# Altium schematic symbol library pyptec-Schlib_jp.SchLib: 316 symbols (part 1 of 7)
Pins are listed as number, name and electrical type; pins without a type are passive.

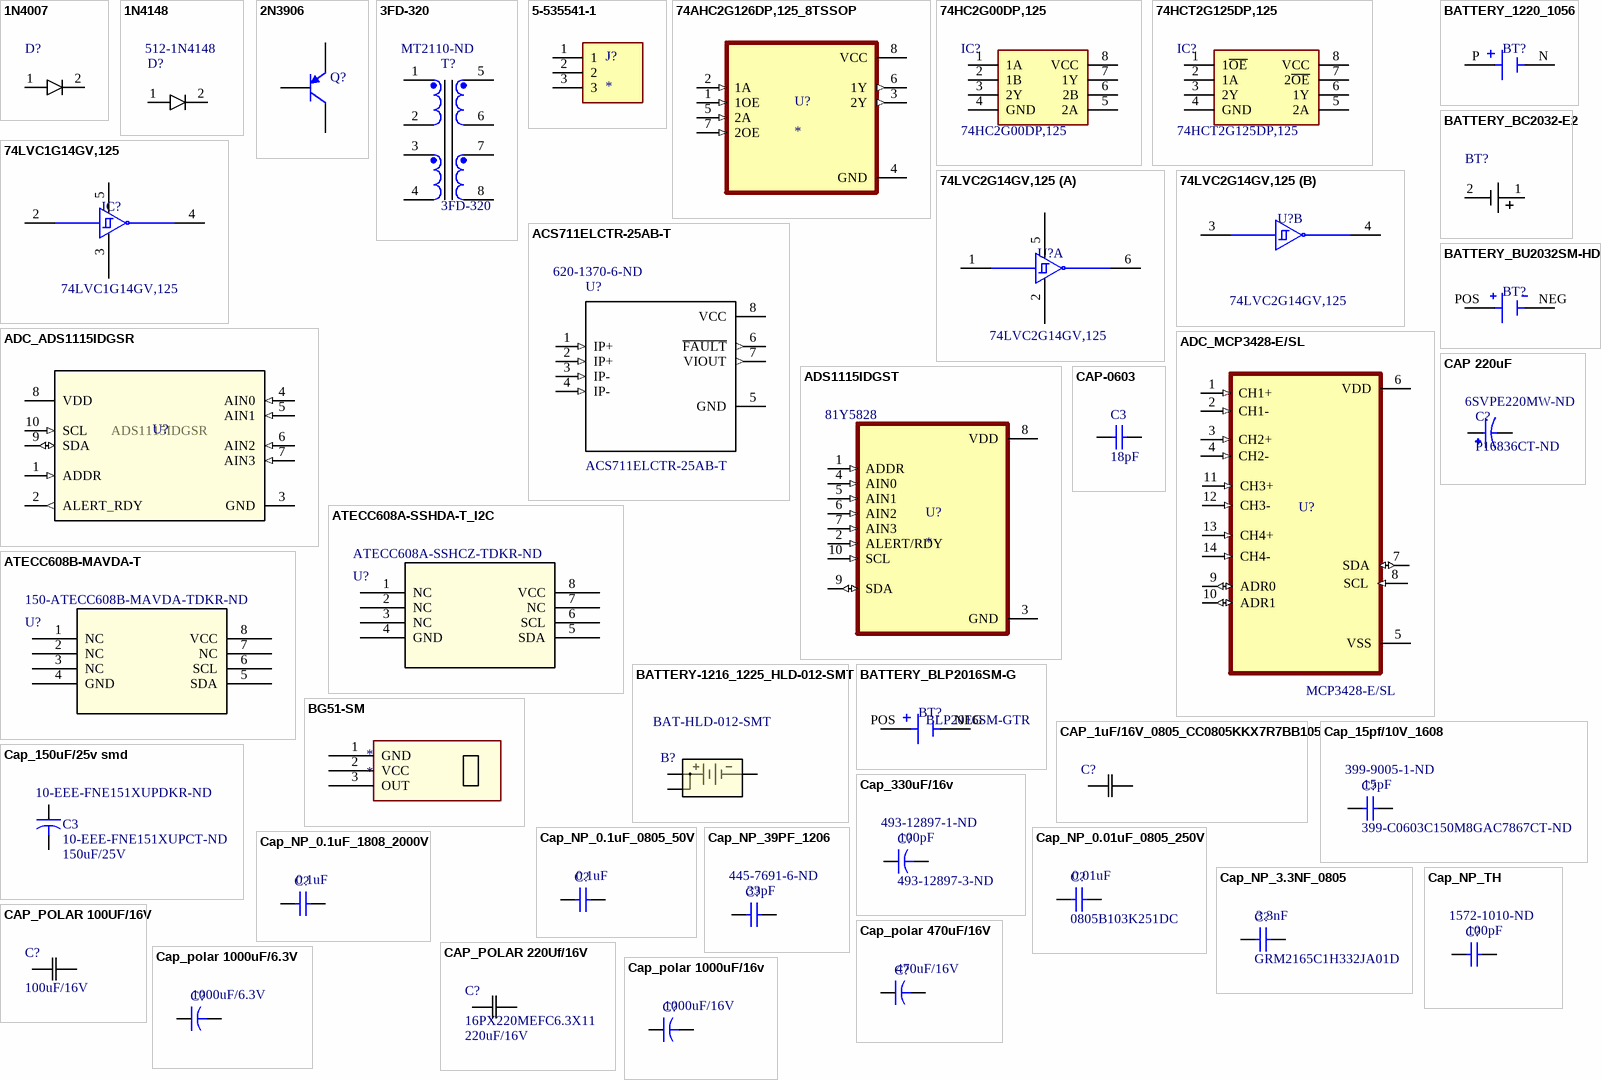
[diagram p0: symbols 1N4007 to Cap_polar 1000uF/16v]

## 1N4007
designator D?  (value not drawn)
Diode Switching 1KV 1A 2-Pin DO-41; Manufacturer: ON Semiconductor / Fairchild; MF: ON Semiconductor; Forward Voltage: 1.1V; Polarity: Standard; Peak Non-Repetitive Surge Current: 30A; Element Configuration: Single; Capacitance: 15pF; Peak Reverse Current: 5uA; Power Dissipation: 3W; Price: None; Package: DO-41 Good-Ark; Availability: Unavailable; MP: 1N4007; SnapEDA_Link: https://www.snapeda.com/parts/1N4007/ON%20Semiconductor/view-part/?ref=snap; Value: *; Supplier 1: Digi-Key; Manufacturer Part Number: 1N4007; Stock 1: 0; Pricing 1: 1=0.18, 10=0.168, 100=0.0912, 500=0.05614, 1000=0.03827 (USD); Mount: Through Hole; Number of Pins: 2; Weight: 0.245g; Contact Plating: Tin,Matte; Min Operating Temperature: -65°C; Max Operating Temperature: 175°C; Packaging: Tape and Reel; Voltage Rating (DC): 1kV; Current Rating: 1A; Output Current: 1A; Max Surge Current: 30A; Forward Current: 1A; Max Repetitive Reverse Voltage (Vrrm): 1kV; Max Forward Surge Current (Ifsm): 30A; Package Quantity: 1000; Reverse Voltage: 1kV; Average Rectified Current: 1A; Max Reverse Voltage (DC): 1kV; Diameter: 2.72mm; Length: 5.2mm; Height: 5.2mm; Width: 2.72mm; Radiation Hardening: No; REACH SVHC: No SVHC; Lead Free: Lead Free; ComponentLink1URL: http://www.farnell.com/datasheets/2288250.pdf?src-supplier=Newark; ComponentLink1Description: http://www.farnell.com/datasheets/2288250.pdf?src-supplier=Newark; ComponentLink2URL: http://www.onsemi.com/pub/Collateral/1N4001-D.PDF?src-supplier=Digi-Key; ComponentLink2Description: http://www.onsemi.com/pub/Collateral/1N4001-D.PDF?src-supplier=Digi-Key; ComponentLink3URL: http://www.fairchildsemi.com/datasheets/1N/1N4001.pdf?src-supplier=Digi-Key; ComponentLink3Description: http://www.fairchildsemi.com/datasheets/1N/1N4001.pdf?src-supplier=Digi-Key; Supplier Part Number 1: 1N4007FSCT-ND
footprint DIODE1N4007(Primary)
pins: 1, 2

## 1N4148
designator D?  Supplier Part Number 2: 512-1N4148  (hidden comment: 1N4148)
Diode Switching 1KV 1A 2-Pin DO-41; Manufacturer: ON Semiconductor / Fairchild; MF: ON Semiconductor; MP: 1N4007; Forward Voltage: 1.1V; Polarity: Standard; Peak Non-Repetitive Surge Current: 30A; Element Configuration: Single; Capacitance: 15pF; Peak Reverse Current: 5uA; Power Dissipation: 3W; Price: None; Package: DO-41 Good-Ark; Availability: Unavailable; SnapEDA_Link: https://www.snapeda.com/parts/1N4007/ON%20Semiconductor/view-part/?ref=snap; Value: *; Supplier 1: Digi-Key; Manufacturer Part Number: 1N4007; Stock 1: 0; Pricing 1: 1=0.18, 10=0.168, 100=0.0912, 500=0.05614, 1000=0.03827 (USD); Mount: Through Hole; Number of Pins: 2; Weight: 0.245g; Contact Plating: Tin,Matte; Min Operating Temperature: -65°C; Max Operating Temperature: 175°C; Packaging: Tape and Reel; Voltage Rating (DC): 1kV; Current Rating: 1A; Output Current: 1A; Max Surge Current: 30A; Forward Current: 1A; Max Repetitive Reverse Voltage (Vrrm): 1kV; Max Forward Surge Current (Ifsm): 30A; Package Quantity: 1000; Reverse Voltage: 1kV; Average Rectified Current: 1A; Max Reverse Voltage (DC): 1kV; Diameter: 2.72mm; Length: 5.2mm; Height: 5.2mm; Width: 2.72mm; Radiation Hardening: No; REACH SVHC: No SVHC; Lead Free: Lead Free; ComponentLink1URL: http://www.farnell.com/datasheets/2288250.pdf?src-supplier=Newark; ComponentLink1Description: http://www.farnell.com/datasheets/2288250.pdf?src-supplier=Newark; ComponentLink2URL: http://www.onsemi.com/pub/Collateral/1N4001-D.PDF?src-supplier=Digi-Key; ComponentLink2Description: http://www.onsemi.com/pub/Collateral/1N4001-D.PDF?src-supplier=Digi-Key; ComponentLink3URL: http://www.fairchildsemi.com/datasheets/1N/1N4001.pdf?src-supplier=Digi-Key; ComponentLink3Description: http://www.fairchildsemi.com/datasheets/1N/1N4001.pdf?src-supplier=Digi-Key; Supplier Part Number 1: 1N4007FSCT-ND; Supplier 2: Mouser
footprint 1N4148
pins: 1, 2

## 2N3906
designator Q?
PNP General Purpose Amplifier; Published: 8-Jun-2000; LatestRevisionDate: 15-Jan-2003; LatestRevisionNote: PCB Footprint 'BCY-W3/D4.7' replaced; DatasheetVersion: 1997; PackageVersion: Sep-1998; PackageReference: TO-92A; Publisher: Altium Limited; PackageDescription: TO, Flat Index; 3 In-Line, Axial Leads; Body Dia. 4.5mm; Leads 0.51 x 0.48 mm (max); ComponentLink1Description: Manufacturer Link; ComponentLink1URL: http://www.fairchildsemi.com/; ComponentLink2Description: Datasheet; ComponentLink2URL: http://www.fairchildsemi.com/ds/2N%2F2N3906.pdf
footprint TO-92A (TO, Flat Index; 3 In-Line, Axial Leads; Body Dia. 4.5mm; Leads 0.51 x 0.48 mm (max))
simulation model 2N3906 (PNP)
signal-integrity model 2N3906
pins: 1 E, 2 B, 3 C

## 3FD-320
designator T?  Supplier Part Number 1: MT2110-ND
Transformadores 12.6VCT @ .2A 6.3V  @ .4A Dual Primary; MP: 3FD-312; MF: Tamura; Package: SOIC-16 Tamura; Price: None; Availability: Unavailable; SnapEDA_Link: https://www.snapeda.com/parts/3FD-312/Tamura/view-part/?ref=snap; Value: *; Supplier 1: Digi-Key
footprint XFMR_3FD-320 (TAMURA)
pins: 1, 2, 3, 4, 5, 6, 7, 8

## 5-535541-1
designator J?  (value not drawn)
Conn Socket Strip RCP 3 POS 2.54mm Solder ST Thru-Hole Gang of Tubes; Product_Type: Connector; MF: TE Connectivity; Number_of_Positions: 3; Centerline_Pitch: 2.54 mm[.1 in]; Package: None; Value: *; TE_purchase_URL: https://www.te.com/usa-en/product-5-535541-1.html?te_bu=Cor&te_type=disp&te_campaign=seda_glo_cor-seda-global-disp-prtnr-fy19-seda-model-bom-cta_sma-317_1&elqCampaignId=32493; Price: None; MP: 5-535541-1; SnapEDA_Link: https://www.snapeda.com/parts/5-535541-1/TE%20Connectivity%20AMP%20Connectors/view-part/443642/?ref=snap; Availability: Unavailable; EU_RoHS_Compliance: Compliant; Comment_1: *
footprint TE_5-535541-1
pins: 1, 2, 3

## 74AHC2G126DP,125_8TSSOP
designator U?
Dual Bus Buffer Gate With 3-State Outputs 8-TSSOP -40 to 125; MP: 74AHC2G126DP,125; Value: 74AHC2G126DP,125; MF: Nexperia USA Inc.; Check_prices: https://www.snapeda.com/parts/SN74LVC2G126DCUR/Texas%20Instruments/view-part/401295/?ref=eda; Price: None; SnapEDA_Link: https://www.snapeda.com/parts/SN74LVC2G126DCUR/Texas%20Instruments/view-part/401295/?ref=snap; Availability: Good; Purchase-URL: https://pricing.snapeda.com/search/part/SN74LVC2G126DCUR/?ref=eda; Package: TSSOP-8 Texas Instruments; Link: https://www.digikey.com/en/products/detail/nexperia-usa-inc/74AHC2G126DP-125/1229530; Digi-Key_Part_Number: 1727-8369-1-ND; ComponentLink1Description: 74AHC2G126DP,125; ComponentLink1URL: https://www.digikey.com/en/products/detail/nexperia-usa-inc/74AHC2G126DP-125/1229530
footprint SOP65P490X110-8N
pins: 1 1OE (in), 2 1A (in), 3 2Y (out), 4 GND (power), 5 2A (in), 6 1Y (out), 7 2OE (in), 8 VCC (power)

## 74HC2G00DP,125
designator IC?
Compuerta NAND IC 2 Canal 8-TSSOP; Manufacturer_Name: Nexperia; Digi_Key_Part_Number: 1727-8396-1-ND; Datasheet Link: https://assets.nexperia.com/documents/data-sheet/74HC_HCT2G00.pdf; Height: 1.1mm; Manufacturer_Part_Number: 74HC2G00DP,125; Mouser Part Number: 771-HC2G00DP125; Mouser Price/Stock: https://www.mouser.co.uk/ProductDetail/Nexperia/74HC2G00DP125?qs=P62ublwmbi8NSsi4JfbcaA%3D%3D; Arrow Part Number: 74HC2G00DP,125; Arrow Price/Stock: https://www.arrow.com/en/products/74hc2g00dp125/nexperia?region=europe; ComponentLink1Description: 74HC2G00DP,125; ComponentLink1URL: https://www.digikey.com/es/products/detail/nexperia-usa-inc/74HC2G00DP-125/9747964; Link: https://www.digikey.com/es/products/detail/nexperia-usa-inc/74HC2G00DP-125/9747964; Value: 74HC2G00DP,125
footprint SOP65P400X110-8N
pins: 1 1A, 2 1B, 3 2Y, 4 GND, 5 2A, 6 2B, 7 1Y, 8 VCC

## 74HCT2G125DP,125
designator IC?
Búfer, no invertido 2 Elemento 1 Bit por elemento 3 estados Output 8-TSSOP; Manufacturer_Name: Nexperia; Digi_Key_Part_Number: 1727-3933-1-ND; Datasheet Link: https://assets.nexperia.com/documents/data-sheet/74HC_HCT2G125.pdf; Height: 1.1mm; Manufacturer_Part_Number: 74HCT2G125DP,125; Mouser Part Number: 771-74HCT2G125DP-G; Mouser Price/Stock: https://www.mouser.co.uk/ProductDetail/Nexperia/74HCT2G125DP125?qs=P62ublwmbi%252BFEEA75cEuYg%3D%3D; Arrow Part Number: 74HCT2G125DP,125; Arrow Price/Stock: https://www.arrow.com/en/products/74hct2g125dp125/nexperia?region=nac; ComponentLink1Description: 74HCT2G125DP,125; ComponentLink1URL: https://www.digikey.com/es/products/detail/nexperia-usa-inc/74HCT2G125DP-125/1709865; Link: https://www.digikey.com/es/products/detail/nexperia-usa-inc/74HCT2G125DP-125/1709865; Price: 0,47; Value: 74HCT2G125DP,125
footprint SOP65P400X110-8N
pins: 1 1~{OE}, 2 1A, 3 2Y, 4 GND, 5 2A, 6 1Y, 7 2~{OE}, 8 VCC

## 74LVC1G14GV,125
designator IC?
Inversor IC 1 Canal Gatillo Schmitt SC-74A; Digi_Key_Part_Number: 1727-4116-1-ND; Parameter 3: 0,08; ComponentLink1Description: 74LVC1G14GV,125; ComponentLink1URL: https://www.digikey.com/es/products/detail/nexperia-usa-inc/74LVC1G14GV-125/1231437; Link: https://www.digikey.com/es/products/detail/nexperia-usa-inc/74LVC1G14GV-125/1231437; Price: 0,13; LCSC Part: C131093; Mouser Part: 771-74LVC1G14GV; Value: 74LVC1G14GV,125
footprint SOT95P275X110-5N
pins: 2 A, 3 GND, 4 Y, 5 VCC

## 74LVC2G14GV,125
designator U?, comment value 74LVC2G14GV,125  (hidden comment: 1727-6088-1-ND)
Inversor IC 2 Canal Gatillo Schmitt 6-TSOP; ComponentLink1Description: IC INVERT SCHMITT 2CH 2-IN 6TSOP; ComponentLink1URL: https://www.digikey.com/es/products/detail/nexperia-usa-inc/74LVC2G14GV-125/1231582?s=N4IgTCBcDaIIwHYwILQDYAMAOLK4oDkAREAXQF8g; Digi_Key_Part_Number: 1727-6088-1-ND; Link: https://www.digikey.com/es/products/detail/nexperia-usa-inc/74LVC2G14GV-125/1231582?s=N4IgTCBcDaIIwHYwILQDYAMAOLK4oDkAREAXQF8g; Price: 0,19; LCSC Part: C426708; Mouser Part: C426708; Price JLCPCB: 0,13
footprint SOT95P275X110-6N
footprint Model Name (Footprint not found)
part A pins: 1 A, 2 (power), 5 (power), 6 Y
part B pins: 3 A, 4 Y

## ACS711ELCTR-25AB-T
designator U?  Supplier Part Number 1: 620-1370-6-ND
Hall Effect Linear Current Sensor with Overcurrent Fault Output for <100 V Isolation Applications; Manufacturer: Allegro MicroSystems; Manufacturer Part Number: ACS711ELCTR-12AB-T; MF: Allegro MicroSystems LLC; Number of Channels: 1; Frequency: 100kHz; Response Time: 4.6us; Max Supply Current: 5.5mA; Polarity: Bidirectional; Linearity: 1%; Accuracy: 5%; Current Sensing: 12.5A; Sensitivity: 110mV/A; Operating Supply Voltage: 3.3V; SnapEDA_Link: https://www.snapeda.com/parts/ACS711ELCTR-25AB-T/Allegro%20MicroSystems%20LLC/view-part/?ref=snap; Package: SOIC-8 Allegro MicroSystems LLC; MP: ACS711ELCTR-25AB-T; Availability: Unavailable; Price: None; Value: *; Supplier 1: Digi-Key; Stock 1: 4237; Pricing 1: 1=2.89, 5=2.682, 10=2.228, 25=1.8564, 50=1.65, 100=1.5675, 500=1.32, 1000=1.2375 (USD); Case/Package: SOIC; Number of Pins: 8; Min Operating Temperature: -40°C; Max Operating Temperature: 85°C; Package Quantity: 1; -3db Bandwidth: 100kHz; Packaging: Tape and Reel; ComponentLink1URL: http://www.allegromicro.com/en/Products/Part_Numbers/0711/0711.pdf?src-supplier=Avnet; ComponentLink1Description: http://www.allegromicro.com/en/Products/Part_Numbers/0711/0711.pdf?src-supplier=Avnet; ComponentLink2URL: http://www.allegromicro.com/~/media/Files/Datasheets/ACS711-Datasheet.ashx?src-supplier=Avnet+Europe; ComponentLink2Description: http://www.allegromicro.com/~/media/Files/Datasheets/ACS711-Datasheet.ashx?src-supplier=Avnet+Europe
footprint SOIC127P600X175-8N
pins: 1 IP+ (in), 2 IP+ (in), 3 IP- (in), 4 IP- (in), 5 GND (power), 6 ~{FAULT} (out), 7 VIOUT (out), 8 VCC (power)

## ADC_ADS1115IDGSR
designator U?, comment ADS1115IDGSR
16 Bit Analog to Digital Converter 2, 4 Input 1 Sigma-Delta 10-VSSOP; Digi_Key_Part_Number: 296-38849-1-ND; Price: 4,39; ComponentLink1Description: ADS1115IDGSR; ComponentLink1URL: https://www.digikey.com/en/products/detail/texas-instruments/ADS1115IDGSR/2231567; Link: https://www.digikey.com/en/products/detail/texas-instruments/ADS1115IDGSR/2231567; LCSC Part: C37593; Mouser Part: 595-ADS1115IDGSR; Price JLCPCB: 0,94; Value: ADS1115IDGSR
footprint DGS0010A_M
pins: 1 ADDR (in), 2 ALERT_RDY (out), 3 GND (power), 4 AIN0 (in), 5 AIN1 (in), 6 AIN2 (in), 7 AIN3 (in), 8 VDD (power), 9 SDA (io), 10 SCL (in)

## ADC_MCP3428-E/SL
designator U?, comment value MCP3428-E/SL  (hidden comment: MCP3428-E/SL-ND)
16 Bit Analog to Digital Converter 4 Input 1 Sigma-Delta 14-SOIC; Price: 4,63; Link: https://www.digikey.com/es/products/detail/MCP3428-E-SL/MCP3428-E-SL-ND/2179226?utm_campaign=buynow&utm_medium=aggregator&curr=usd&utm_source=octopart; Digi_Key_Part_Number: MCP3428-E/SL-ND; ComponentLink1Description: IC ADC 16BIT SIGMA-DELTA 14SOIC; ComponentLink1URL: https://www.digikey.com/es/products/detail/microchip-technology/mcp3428-e-sl/2179226; LCSC Part: C560166; Mouser Part: 579-MCP3428E/SL; Price JLCPCB: 4,47
footprint SOIC127P600X175-14N
pins: 1 CH1+ (in), 2 CH1- (in), 3 CH2+ (in), 4 CH2- (in), 5 VSS (power), 6 VDD (power), 7 SDA (io), 8 SCL (in), 9 ADR0 (io), 10 ADR1 (io), 11 CH3+ (in), 12 CH3- (in), 13 CH4+ (in), 14 CH4- (in)

## ADS1115IDGST
designator U?  Supplier Part Number 1: 81Y5828
MP: ADS1115IDGST; Package: None; Availability: Unavailable; Value: *; Price: None; Supplier 1: Newark
footprint SOP50P490X110-10N
pins: 1 ADDR (in), 2 ALERT/RDY (in), 3 GND (power), 4 AIN0 (in), 5 AIN1 (in), 6 AIN2 (in), 7 AIN3 (in), 8 VDD (power), 9 SDA (io), 10 SCL (in)

## ATECC608A-SSHDA-T_I2C
designator U?, comment Supplier Part Number 1: ATECC608A-SSHCZ-TDKR-ND  (hidden comment: ATECC608A-SSHDA-T)
CHIP DE AUTENTICACIÓN IC 8SOIC; Mfr_Name: Microchip; Manufacturer_Part_Number: ATECC608A-SSHCZ-T; Digi_Key_Part_Number: 150-ATECC608B-SSHDA-TCT-ND; Copyright: Copyright (C) 2022 Ultra Librarian. All rights reserved.; RefDes: RefDes; Type: DEV; Supplier 1: Digi-Key; ComponentLink1Description: ATECC608A-SSHDA-T; ComponentLink1URL: https://ww1.microchip.com/downloads/en/DeviceDoc/ATECC608A-CryptoAuthentication-Device-Summary-Data-Sheet-DS40001977B.pdf; Link: https://www.digikey.com/es/products/detail/microchip-technology/ATECC608B-SSHDA-T/13415162?s=N4IgTCBcDaIIIBUCiBhFA2ADADgEIAIBlQgCQBFEQBdAXyA; ComponentLink2Description: IC AUTHENTICATION CHIP; ComponentLink2URL: https://www.digikey.com/es/products/detail/microchip-technology/ATECC608B-SSHDA-T/13415162?s=N4IgTCBcDaIIwFYAMBaAggFQKIGEcDYkAOAIRQGVyAJAETRQxwxQDkaQBdAXyA
footprint SOIC8_4P9X3P9MC_MCH
pins: 1 NC, 2 NC, 3 NC, 4 GND, 5 SDA, 6 SCL, 7 NC, 8 VCC (power)

## ATECC608B-MAVDA-T
designator U?, comment Supplier Part Number 1: 150-ATECC608B-MAVDA-TDKR-ND  (hidden comment: 150-ATECC608B-MAVDA-TCT-ND)
IC AUTHENTICATION CHIP; Mfr_Name: Microchip; Manufacturer_Part_Number: ATECC608A-SSHCZ-T; Copyright: Copyright (C) 2022 Ultra Librarian. All rights reserved.; Digi-Key_Part_Number_1: ATECC608A-SSHCZ-TCT-ND; Digi-Key_Part_Number_2: ATECC608A-SSHCZ-TDKR-ND; Digi-Key_Part_Number_3: ATECC608A-SSHCZ-TTR-ND; RefDes: RefDes; Type: DEV; Supplier 1: Digi-Key
footprint SON50P300X200X60-9N-EP160X140
pins: 1 NC, 2 NC, 3 NC, 4 GND, 5 SDA, 6 SCL, 7 NC, 8 VCC (power)

## BATTERY-1216_1225_HLD-012-SMT
designator B?, comment BAT-HLD-012-SMT
Battery Retainer Coin, 12.0mm 1 Cell SMD (SMT) Tab; Digi_Key_Part_Number: BAT-HLD-012-SMT-ND; Link: https://www.digikey.com/en/products/detail/te-connectivity-linx/BAT-HLD-012-SMT/3044013; Price: 0,34; ComponentLink1Description: BATTERY RETAINER COIN 12MM SMD; ComponentLink1URL: https://www.digikey.com/en/products/detail/te-connectivity-linx/BAT-HLD-012-SMT/3044013; Value: BAT-HLD-012-SMT
footprint BAT-HLD-012-SMT_TEC
pins: 1, 2, 3

## BATTERY_1220_1056
designator BT?, comment 1056  (value not drawn)
Batería Soporte (abierto) Moneda, 12.0mm 1 Celdas Lengüeta SMD (SMT); Digi_Key_Part_Number: 36-1056-ND; Value: CR1220; Link: https://www.digikey.com/es/products/detail/keystone-electronics/1056/2020198; Price: 1,10; LCSC Part: C70381; Mouser Part: 534-1056; Price JLCPCB: 0,23; ComponentLink1Description: BATTERY HOLDER COIN 12.5MM SMD; ComponentLink1URL: https://www.digikey.com/es/products/detail/keystone-electronics/1056/2020198
footprint BAT_1056
pins: N NEG, P POS

## BATTERY_BC2032-E2
designator BT?, comment BC2032-E2  (value not drawn)
BATTERY HOLDER COIN 20MM PC PIN; Digi_Key_Part_Number: BC2032-E2-ND; ComponentLink1Description: BATTERY HOLDER COIN 20MM PC PIN; ComponentLink1URL: https://www.digikey.com/en/products/detail/mpd-memory-protection-devices/BC2032-E2/2077836; Link: https://www.digikey.com/en/products/detail/mpd-memory-protection-devices/BC2032-E2/2077836; Price: 1,10; Mouser Part: *; Price JLCPCB: *
footprint BAT3
pins: 1, 2

## BATTERY_BLP2016SM-G
designator BT?, comment BLP2016SM-GTR
Battery Holder (Open) Coin, 20.0mm 1 Cell SMD (SMT) Tab; Digi_Key_Part_Number: BLP2016SM-GCT-ND; ComponentLink1Description: BATTERY HOLDER COIN 20MM SMD; ComponentLink1URL: https://www.digikey.com/en/products/detail/mpd-memory-protection-devices/BLP2016SM-GTR/5430469; Link: https://www.digikey.com/en/products/detail/mpd-memory-protection-devices/BLP2016SM-GTR/5430469; Price: 1,35; Mouser Part: *; LCSC Part: C964739; Price JLCPCB: 0,39; Value: BLP2016SM-GTR
footprint BAT_BLP2016SM-G
pins: NEG, POS

## BATTERY_BU2032SM-HD-G
designator BT?, comment BU2032SM-HD-G  (value not drawn)
Battery Holder (Open) Coin, 20.0mm 1 Cell SMD (SMT) Tab; Digi_Key_Part_Number: BU2032SM-HD-GCT-ND; Price: 1,47; ComponentLink1Description: BU2032SM-HD-G; ComponentLink1URL: https://www.digikey.com/en/products/detail/mpd-memory-protection-devices/BU2032SM-HD-G/755446; Link: https://www.digikey.com/en/products/detail/mpd-memory-protection-devices/BU2032SM-HD-G/755446
footprint BAT_BU2032SM-HD-G
pins: NEG, POS

## BG51-SM
designator *
The BG51 is capable of detecting beta radiation / (electrons), gamma radiation (photons) and X-rays.
footprint BG51SM (Nuclear Beta and Gamma Radiation Sensor)
pins: 1 GND, 2 VCC (power), 3 OUT

## CAP 220uF
designator C?, comment P16836CT-ND  Supplier Part Number 1: 6SVPE220MW-ND
220 µF 6.3 V Aluminio - capacitores de polímero Radial, encapsulado - terminales SMD 15mOhm 2000 h a 105°C; MP: 6SVPE220MW; Availability: Unavailable; Package: None; Value: *; Price: None; ComponentLink1Description: 6SVPE220MW; ComponentLink1URL: https://www.digikey.com/en/products/detail/panasonic-electronic-components/6SVPE220MW/4209271; Supplier 1: Digi-Key; Digi_Key_Part_Number: P16836CT-ND; Link: https://www.digikey.com/en/products/detail/panasonic-electronic-components/6SVPE220MW/4209271?s=N4IgTCBcDaIAoEYBsAOAzEgwgFQLQDkAREAXQF8g
footprint CAP_6SVPE220MW
pins: 1, 2

## CAP-0603
designator C3, comment 18pF
Ceramic CAP 0603(1608)
pins: 1, 2

## CAP_1uF/16V_0805_CC0805KKX7R7BB105
designator C?, comment CAP CER 1UF 16V X7R 0805  (value not drawn)
1 µF ±10% 16V Capacitores cerámicos X7R 0805 (2012 métrico); Digi_Key_Part_Number: 311-1365-1-ND; Value: 1uF/16V; ComponentLink1Description: CAP CER 1UF 16V X7R 0805; ComponentLink1URL: https://www.digikey.com/es/products/detail/yageo/CC0805KKX7R7BB105/2103103; Link: https://www.digikey.com/es/products/detail/yageo/CC0805KKX7R7BB105/2103103; Price: 0,13; LCSC Part: C94122; Mouser Part: 603-CC805KKX7R7BB105; Price JLCPCB: 0,0112
footprint CAP_NP_0805
pins: 1, 2

## Cap_15pf/10V_1608
designator C?, comment 399-C0603C150M8GAC7867CT-ND  value 15pF  Supplier Part Number 1: 399-9005-1-ND
15 pF ±20% 10V Capacitores cerámicos C0G, NP0 0603 (1608 métrico); Manufacturer: Kyocera AVX; Manufacturer Part Number: 08055C104MAT2A; Dielectric Material: Ceramic; Capacitance: 100nF; Voltage Rating: 50V; Dielectric: X7R; Dissipation Factor: 2.5%; Insulation Resistance: 100GR; Published: 8-Jun-2000; LatestRevisionDate: 17-Jul-2002; LatestRevisionNote: Re-released for DXP Platform.; PackageReference: RAD-0.3; Publisher: Altium Limited; PackageDescription: Radial Cap, Thru-Hole; 2 Leads; 0.3 in Pin Spacing; Mount: Surface Mount,PCB; Case/Package: 0805; Number of Pins: 2; Case Code (Metric): 2012; Case Code (Imperial): 0805; Contact Plating: Tin,Matte; Min Operating Temperature: -55°C; Max Operating Temperature: 125°C; Package Quantity: 1; Tolerance: 20%; Packaging: Tape and Reel; Voltage Rating (DC): 50V; Termination: SMD/SMT; Voltage: 50V; Length: 2.01mm; Height: 0.94mm; Width: 0.049inch; Thickness: 0.037inch; Depth: 1.25mm; Radiation Hardening: No; REACH SVHC: No SVHC; Lead Free: Lead Free; Supplier 1: Digi-Key; Stock 1: 59743; Pricing 1: 1=0.11, 10=0.078, 100=0.0347, 500=0.0248, 1000=0.01948 (USD); Lead Pitch: 0.7mm; ComponentLink1Description: CAP CER 15PF 10V C0G/NP0 0603; ComponentLink1URL: https://www.digikey.com/es/products/detail/kemet/C0603C150M8GAC7867/2199937?s=N4IgTCBcDaIMwE4EFoEAY0FZkEZkDsATEAXQF8g; Digi_Key_Part_Number: 399-C0603C150M8GAC7867CT-ND; Link: https://www.digikey.com/es/products/detail/kemet/C0603C150M8GAC7867/2199937?s=N4IgTCBcDaIMwE4EFoEAY0FZkEZkDsATEAXQF8g; Parameter 1: *; Price: 0,10
footprint CAP_NP_C2012X94N
pins: 1, 2

## Cap_150uF/25v smd
designator C3, comment 10-EEE-FNE151XUPCT-ND  value 150uF/25V  Supplier Part Number 1: 10-EEE-FNE151XUPDKR-ND
Capacitores electrolíticos de aluminio 150 µF 25 V Radial, encapsulado - terminales SMD 2000 h a 105°C; Manufacturer: Nichicon; Manufacturer Part Number: UVR1E102MPD1TD; Dielectric Material: Aluminium; Capacitance: 1mF; Tolerance: 20%; Voltage Rating (DC): 25V; Life (Hours): 2000Hour; Ripple Current: 960mA; Leakage Current: 750uA; Dissipation Factor: 0.16%; Lead Diameter: 0.6mm; Published: 23-Sep-2002; PackageReference: CAPR5-4X5; Publisher: Altium Limited; PackageDescription: Capacitor; 2 Leads; Mount: Through Hole,PCB; Case/Package: Radial; Number of Pins: 2; Min Operating Temperature: -40°C; Max Operating Temperature: 85°C; Packaging: Tape and Reel; Voltage Rating: 25V; Package Quantity: 500; Termination: Radial; Voltage: 25V; Diameter: 10mm; Length: 20mm; Height: 20mm; Lead Pitch: 5mm; Height - Seated (Max): 0.866inch; Radiation Hardening: No; REACH SVHC: No SVHC; Lead Free: Lead Free; ComponentLink1Description: EEE-FNE151XUP; ComponentLink1URL: https://www.digikey.com/es/products/detail/panasonic-electronic-components/EEE-FNE151XUP/11656894; Supplier 1: Digi-Key; Link: https://www.digikey.com/es/products/detail/panasonic-electronic-components/EEE-FNE151XUP/11656894; Digi_Key_Part_Number: 10-EEE-FNE151XUPCT-ND; Price: 0,71
footprint CAPAE1030X1030N - duplicate
pins: 1, 2

## Cap_330uF/16v
designator C?, comment 493-12897-3-ND  value 100pF  Supplier Part Number 1: 493-12897-1-ND
330 µF 16 V Aluminum Electrolytic Capacitors Radial, Can 1000 Hrs @ 105°C; Manufacturer: Nichicon; Manufacturer Part Number: UVR1E102MPD1TD; Dielectric Material: Aluminium; Capacitance: 1mF; Tolerance: 20%; Voltage Rating (DC): 25V; Life (Hours): 2000Hour; Ripple Current: 960mA; Leakage Current: 750uA; Dissipation Factor: 0.16%; Lead Diameter: 0.6mm; Published: 23-Sep-2002; PackageReference: CAPR5-4X5; Publisher: Altium Limited; PackageDescription: Capacitor; 2 Leads; Mount: Through Hole,PCB; Case/Package: Radial; Number of Pins: 2; Min Operating Temperature: -40°C; Max Operating Temperature: 85°C; Packaging: Tape and Reel; Voltage Rating: 25V; Package Quantity: 500; Termination: Radial; Voltage: 25V; Diameter: 10mm; Length: 20mm; Height: 20mm; Lead Pitch: 5mm; Height - Seated (Max): 0.866inch; Radiation Hardening: No; REACH SVHC: No SVHC; Lead Free: Lead Free; Supplier 1: Digi-Key; Stock 1: 8502; Pricing 1: 1=0.45, 10=0.312, 100=0.1869, 500=0.14018, 1000=0.11837 (USD); Digi_Key_Part_Number: 493-12897-3-ND; Link: https://www.digikey.com/en/products/detail/nichicon/UVY1C331MED1TD/4329096?s=N4IgTCBcDaICwE4DMBGMAOBB2AtCkAugL5A; ComponentLink6Description: cap 330uF /16V; ComponentLink6URL: https://www.digikey.com/en/products/detail/nichicon/UVY1C331MED1TD/4329096?s=N4IgTCBcDaICwE4DMBaAjGAHAg7OlAcgCIgC6AvkA; Price: 0,48
footprint C470U
pins: 1, 2

## Cap_NP_0.1uF_0805_50V
designator C?, comment value 0.1uF  (hidden comment: 478-3351-1-ND)
0.1 µF ±20% 50V Ceramic Capacitor X7R 0805 (2012 Metric); Link: https://www.digikey.com/en/products/detail/kyocera-avx/08055C104MAT2A/929983?s=N4IgTCBcDaICwHYAcBmFBWAjANhAXQF8g; Digi_Key_Part_Number: 478-3351-1-ND; ComponentLink1Description: CAP CER 0.1UF 50V X7R 0805; ComponentLink1URL: https://www.digikey.com/es/products/detail/kyocera-avx/KGM21NR71H104MT/929983?s=N4IgTCBcDaICwHYAcBaAzGgrARhbgcgCIgC6AvkA; Price: 0,16; LCSC Part: C49678; Mouser Part: 581-08055C104M; Price JLCPCB: 0,01
footprint CAP_NP_0805
pins: 1, 2

## Cap_NP_0.01uF_0805_250V
designator C?, comment 0805B103K251DC  value 0.01uF
0.01 µF ±10% 250V Ceramic Capacitor X7R 0805 (2012 Metric); Digi_Key_Part_Number: 3372-0805B103K251DCTR-ND; Link: https://www.digikey.com/en/products/detail/nextgen-components/0805B103K251DC/18668378; Price: 0,036; ComponentLink1Description: Cap.,SMD,0805,X7R,10nF,10%,250V; ComponentLink1URL: https://www.digikey.com/en/products/detail/nextgen-components/0805B103K251DC/18668378
footprint CAP_NP_0805
pins: 1, 2

## Cap_NP_0.1uF_1808_2000V
designator C?, comment value 0.1uF  (hidden comment: 399-16769-1-ND)
1000 pF ±20% 2000V (2kV) Ceramic Capacitor X7R 1808 (4520 Metric); ComponentLink1Description: 399-16769-1-ND; ComponentLink1URL: https://www.digikey.com/es/products/detail/kemet/C1808C102MGRACAUTO/8109950?s=N4IgjCBcpgbFoDGUBmBDANgZwKYBoQB7KAbXDABYKAmakAXQIAcAXKEAZRYCcBLAOwDmIAL4iCdSGTD8AYgHpqAawBqAAgDCObmgC2vZPRFA; Digi_Key_Part_Number: 399-16769-1-ND; Link: https://www.digikey.com/en/products/detail/kemet/C1808C102MGRACAUTO/8109950?s=N4IgTCBcDaIMwE4EEYBsB2VKQF0C%2BQA; Price: 1,15; LCSC Part: C326594; Price JLCPCB: 0,07
footprint CAP-1808 (Ceramic CAP 1808(4520))
pins: 1, 2

## Cap_NP_3.3NF_0805
designator C?, comment GRM2165C1H332JA01D  value 3.3nF
3300 pF ±5% 50V Ceramic Capacitor C0G, NP0 0805 (2012 Metric); Manufacturer: Murata Electronics; Manufacturer Part Number: 08055C104MAT2A; Digi_Key_Part_Number: 490-1632-1-ND; Tolerance: 20%; Dielectric: X7R; Dissipation Factor: 2.5%; Insulation Resistance: 100GR; Published: 8-Jun-2000; LatestRevisionDate: 17-Jul-2002; LatestRevisionNote: Re-released for DXP Platform.; PackageReference: RAD-0.3; Publisher: Altium Limited; PackageDescription: Radial Cap, Thru-Hole; 2 Leads; 0.3 in Pin Spacing; Supplier 1: Digi-Key; Stock 1: 163878; Price: 0,17; Mount: Surface Mount,PCB; Case/Package: 0805; Number of Pins: 2; Contact Plating: Tin,Matte; Dielectric Material: Ceramic; Min Operating Temperature: -55°C; Max Operating Temperature: 125°C; Package Quantity: 1; Voltage Rating: 50V; Packaging: Tape and Reel; Voltage Rating (DC): 50V; Termination: SMD/SMT; Voltage: 50V; Length: 2.01mm; Height: 0.94mm; Width: 0.049inch; Thickness: 0.037inch; Depth: 1.25mm; Radiation Hardening: No; REACH SVHC: No SVHC; Lead Free: Lead Free; Link: https://www.digikey.com/en/products/detail/murata-electronics/GRM2165C1H332JA01D/586789; ComponentLink1Description: CAP CER 3300PF 50V C0G/NP0 0805; ComponentLink1URL: https://www.digikey.com/en/products/detail/murata-electronics/GRM2165C1H332JA01D/586789; Supplier Part Number 1: 490-1632-1-ND
footprint CAP_NP_0805
pins: 1, 2

## Cap_NP_39PF_1206
designator C?, comment value 33pF  Supplier Part Number 1: 445-7691-6-ND  (hidden comment: 478-3351-1-ND)
0.033 µF ±5% 50V Capacitores cerámicos C0G, NP0 1206 (3216 métrico); Manufacturer: Kyocera AVX; Manufacturer Part Number: C3216C0G1H333J085AA; Digi_Key_Part_Number: 445-7691-1-ND; Dielectric Material: Ceramic; Capacitance: 0.033uF; Tolerance: 20%; Dielectric: X7R; Dissipation Factor: 2.5%; Insulation Resistance: 100GR; Published: 8-Jun-2000; LatestRevisionDate: 17-Jul-2002; LatestRevisionNote: Re-released for DXP Platform.; PackageReference: RAD-0.3; Publisher: Altium Limited; PackageDescription: Radial Cap, Thru-Hole; 2 Leads; 0.3 in Pin Spacing; Mount: Surface Mount,PCB; Case/Package: 0805; Number of Pins: 2; Case Code (Metric): 2012; Case Code (Imperial): 0805; Contact Plating: Tin,Matte; Min Operating Temperature: -55°C; Max Operating Temperature: 125°C; Package Quantity: 1; Voltage Rating: 50V; Packaging: Tape and Reel; Voltage Rating (DC): 50V; Termination: SMD/SMT; Voltage: 50V; Length: 2.01mm; Height: 0.94mm; Width: 0.049inch; Thickness: 0.037inch; Depth: 1.25mm; Radiation Hardening: No; REACH SVHC: No SVHC; Lead Free: Lead Free; Supplier 1: Digi-Key; Link: https://www.digikey.com/es/products/detail/C3216C0G1H333J085AA/445-7691-6-ND/2734401?utm_campaign=buynow&utm_medium=aggregator&curr=usd&utm_source=octopart; ComponentLink1Description: CAP CER 0.033UF 50V C0G 1206; ComponentLink1URL: https://www.digikey.com/es/products/detail/C3216C0G1H333J085AA/445-7691-6-ND/2734401?utm_campaign=buynow&utm_medium=aggregator&curr=usd&utm_source=octopart
footprint CAP_1206_NP
pins: 1, 2

## Cap_NP_TH
designator C?  value 100pF  Supplier Part Number 1: 1572-1010-ND
Capacitor; Manufacturer: Kyocera AVX; Manufacturer Part Number: 08055C104MAT2A; Dielectric Material: Ceramic; Capacitance: 100nF; Voltage Rating: 50V; Tolerance: 20%; Dielectric: X7R; Dissipation Factor: 2.5%; Insulation Resistance: 100GR; Voltage Rating (AC): 250V; ESR (Equivalent Series Resistance): 17.684R; Lead Length: 15mm; Published: 8-Jun-2000; LatestRevisionDate: 17-Jul-2002; LatestRevisionNote: Re-released for DXP Platform.; PackageReference: RAD-0.3; Publisher: Altium Limited; PackageDescription: Radial Cap, Thru-Hole; 2 Leads; 0.3 in Pin Spacing; Mount: Surface Mount,PCB; Case/Package: 0805; Number of Pins: 2; Case Code (Metric): 2012; Case Code (Imperial): 0805; Contact Plating: Tin,Matte; Min Operating Temperature: -55°C; Max Operating Temperature: 125°C; Package Quantity: 1; Packaging: Tape and Reel; Voltage Rating (DC): 50V; Termination: SMD/SMT; Voltage: 50V; Length: 2.01mm; Height: 0.94mm; Width: 0.049inch; Thickness: 0.037inch; Depth: 1.25mm; Radiation Hardening: No; REACH SVHC: No SVHC; Lead Free: Lead Free; ComponentLink1URL: http://catalogs.avx.com/SurfaceMount.pdf?src-supplier=Digi-Key; ComponentLink1Description: http://catalogs.avx.com/SurfaceMount.pdf?src-supplier=Digi-Key; ComponentLink2URL: http://www.avx.com/docs/catalogs/cx7r.pdf?src-supplier=Avnet; ComponentLink2Description: http://www.avx.com/docs/catalogs/cx7r.pdf?src-supplier=Avnet; ComponentLink3URL: https://www.alliedelec.com/m/d/a24bb5190bea413b2ff164816f55e87c.pdf?src-supplier=Allied+Electronics; ComponentLink3Description: https://www.alliedelec.com/m/d/a24bb5190bea413b2ff164816f55e87c.pdf?src-supplier=Allied+Electronics; ComponentLink4URL: http://www.avx.com/docs/catalogs/cx7r.pdf?src-supplier=Avnet+Europe; ComponentLink4Description: http://www.avx.com/docs/catalogs/cx7r.pdf?src-supplier=Avnet+Europe; ComponentLink5URL: http://www.farnell.com/datasheets/2095836.pdf?src-supplier=Element14; ComponentLink5Description: http://www.farnell.com/datasheets/2095836.pdf?src-supplier=Element14; ComponentLink6URL: http://www.farnell.com/datasheets/2237835.pdf?src-supplier=Element14; ComponentLink6Description: http://www.farnell.com/datasheets/2237835.pdf?src-supplier=Element14; ComponentLink7URL: http://avx.com/docs/Catalogs/cx7r.pdf?src-supplier=Element14; ComponentLink7Description: http://avx.com/docs/Catalogs/cx7r.pdf?src-supplier=Element14; Supplier 1: Digi-Key; Stock 1: 6804; Pricing 1: 1=0.99, 10=0.785, 100=0.5886, 500=0.4447, 1000=0.39239, 2500=0.36623, 5000=0.35315 (USD); Lead Pitch: 0.886inch; Height - Seated (Max): 0.65inch; ComponentLink8URL: http://www.illinoiscapacitor.com/pdf/seriesDocuments/MSR%20series.pdf?src-supplier=Future+Electronics; ComponentLink8Description: http://www.illinoiscapacitor.com/pdf/seriesDocuments/MSR%20series.pdf?src-supplier=Future+Electronics; ComponentLink9URL: https://www.alliedelec.com/m/d/3d64ae266c9d19b4eff468d6deaeec77.pdf?src-supplier=Allied+Electronics; ComponentLink9Description: https://www.alliedelec.com/m/d/3d64ae266c9d19b4eff468d6deaeec77.pdf?src-supplier=Allied+Electronics
footprint Cap_np_TH (Axial Device, Thru-Hole; 2 Leads; 0.5 in Pin Spacing)
pins: 1, 2

## CAP_POLAR 100UF/16V
designator C?, comment value 100uF/16V  (hidden comment: 860010372006)
Capacitores electrolíticos de aluminio 100 µF 16 V Radial, encapsulado 2000 h a 85°C; Mfr_Name: Wurth Electronics; Digi_Key_Part_Number: 732-8598-1-ND; Type: Aluminum Electrolytic Capacitors; ComponentLink1Description: CAP ALUM 100UF 20% 16V RADIAL; ComponentLink1URL: https://www.digikey.com/es/products/detail/w%C3%BCrth-elektronik/860010372006/5726847; Link: https://www.digikey.com/es/products/detail/w%C3%BCrth-elektronik/860010372006/5726847; Price: 0,10
footprint CAP_WCAP-ATG8_5x11_WRE
pins: 1, 2

## CAP_POLAR 220Uf/16V
designator C?, comment 16PX220MEFC6.3X11  value 220uF/16V
Capacitores electrolíticos de aluminio 220 µF 16 V Radial, encapsulado 1000 h a 105°C; Mfr_Name: Rubycon; Digi_Key_Part_Number: 1189-1129-ND; ComponentLink1Description: CAP ALUM 220UF 20% 16V RADIAL; ComponentLink1URL: https://www.digikey.com/es/products/detail/rubycon/16PX220MEFC6-3X11/3134087; Link: https://www.digikey.com/es/products/detail/rubycon/16PX220MEFC6-3X11/3134087; Price: 0,31
footprint CAP_PKPZ_6P3X11_LOW_RUB
pins: 1, 2

## Cap_polar 470uF/16V
designator C?, comment value 470uF/16V  (hidden comment: 1572-1747-ND)
470 µF 16 V Aluminum Electrolytic Capacitors Radial, Can 564mOhm @ 120Hz 2000 Hrs @ 85°C; ComponentLink1Description: CAP ALUM 470UF 20% 16V RADIAL; ComponentLink1URL: https://www.digikey.com/es/products/detail/cornell-dubilier-illinois-capacitor/477CKS016M/5412876?s=N4IgTCBcDaIIwFYDsYC0ckBYmoHIBEQBdAXyA; Link: https://www.digikey.com/es/products/detail/cornell-dubilier-illinois-capacitor/477CKS016M/5412876?s=N4IgTCBcDaIIwFYDsYC0ckBYmoHIBEQBdAXyA; Digi_Key_Part_Number: 1572-1747-ND; Price: 0,29; Price JLCPCB: 0,036; Mouser Part: 598-477CKS016M; LCSC Part: C5154
footprint C470U
pins: 1 +, 2 -

## Cap_polar 1000uF/6.3V
designator C?, comment value 1000uF/6.3V  (hidden comment: 108CKE6R3M-ND)
1000 µF 6.3 V Aluminum Electrolytic Capacitors Radial, Can 364.7mOhm @ 120Hz 2000 Hrs @ 105°C; ComponentLink1Description: CAP ALUM 1000UF 20% 6.3V RADIAL; ComponentLink1URL: https://www.digikey.com/es/products/detail/cornell-dubilier-illinois-capacitor/108CKE6R3M/5410852?s=N4IgTCBcDaIIwAYAcBhA0gUQGwCUDMAsgLQByAIiALoC%2BQA; Digi_Key_Part_Number: 108CKE6R3M-ND; Link: https://www.digikey.com/es/products/detail/cornell-dubilier-illinois-capacitor/108CKE6R3M/5410852?s=N4IgTCBcDaIIwAYAcBhA0gUQGwCUDMAsgLQByAIiALoC%2BQA; Price: 0,34; Price JLCPCB: 0,08; Mouser Part: 598-108CKE6R3M; LCSC Part: C2888088
footprint C470U
pins: 1, 2

## Cap_polar 1000uF/16v
designator C?, comment value 1000uF/16V  (hidden comment: 565-EKY-160ELL102MJ20S-ND)
1000 µF 16 V Aluminum Electrolytic Capacitors Radial, Can 7000 Hrs @ 105°C; Manufacturer: Nichicon; Dielectric Material: Aluminium; Capacitance: 1mF; Tolerance: 20%; Voltage Rating (DC): 25V; Life (Hours): 2000Hour; Ripple Current: 960mA; Leakage Current: 750uA; Dissipation Factor: 0.16%; Lead Diameter: 0.6mm; Published: 23-Sep-2002; PackageReference: CAPR5-4X5; Publisher: Altium Limited; PackageDescription: Capacitor; 2 Leads; Manufacturer Part Number: EKY-160ELL102MJ20S; Mount: Through Hole,PCB; Case/Package: Radial; Number of Pins: 2; Min Operating Temperature: -40°C; Max Operating Temperature: 85°C; Packaging: Tape and Reel; Voltage Rating: 25V; Package Quantity: 500; Termination: Radial; Voltage: 25V; Diameter: 10mm; Length: 20mm; Height: 20mm; Lead Pitch: 5mm; Height - Seated (Max): 0.866inch; Radiation Hardening: No; REACH SVHC: No SVHC; Lead Free: Lead Free; Supplier 1: Digi-Key; Digi_Key_Part_Number: 565-EKY-160ELL102MJ20S-ND; Link: https://www.digikey.com/en/products/detail/chemi-con/eky-160ell102mj20s/756043?_gl=1*9wivd4*_up*MQ..&gclid=Cj0KCQjwudexBhDKARIsAI-GWYWGv5W_8a_noxMbz-LnjbN43bADXYvQCdCe0nMUptKJMzqfqrLL-qoaAomdEALw_wcB; ComponentLink1Description: CAP ALUM 1000UF 20% 16V RADIAL; ComponentLink1URL: https://www.digikey.com/en/products/detail/chemi-con/eky-160ell102mj20s/756043?_gl=1*9wivd4*_up*MQ..&gclid=Cj0KCQjwudexBhDKARIsAI-GWYWGv5W_8a_noxMbz-LnjbN43bADXYvQCdCe0nMUptKJMzqfqrLL-qoaAomdEALw_wcB; Supplier Part Number 1: 565-EKY-160ELL102MJ20S-ND; Price: 0,41
footprint C470U
pins: 1, 2

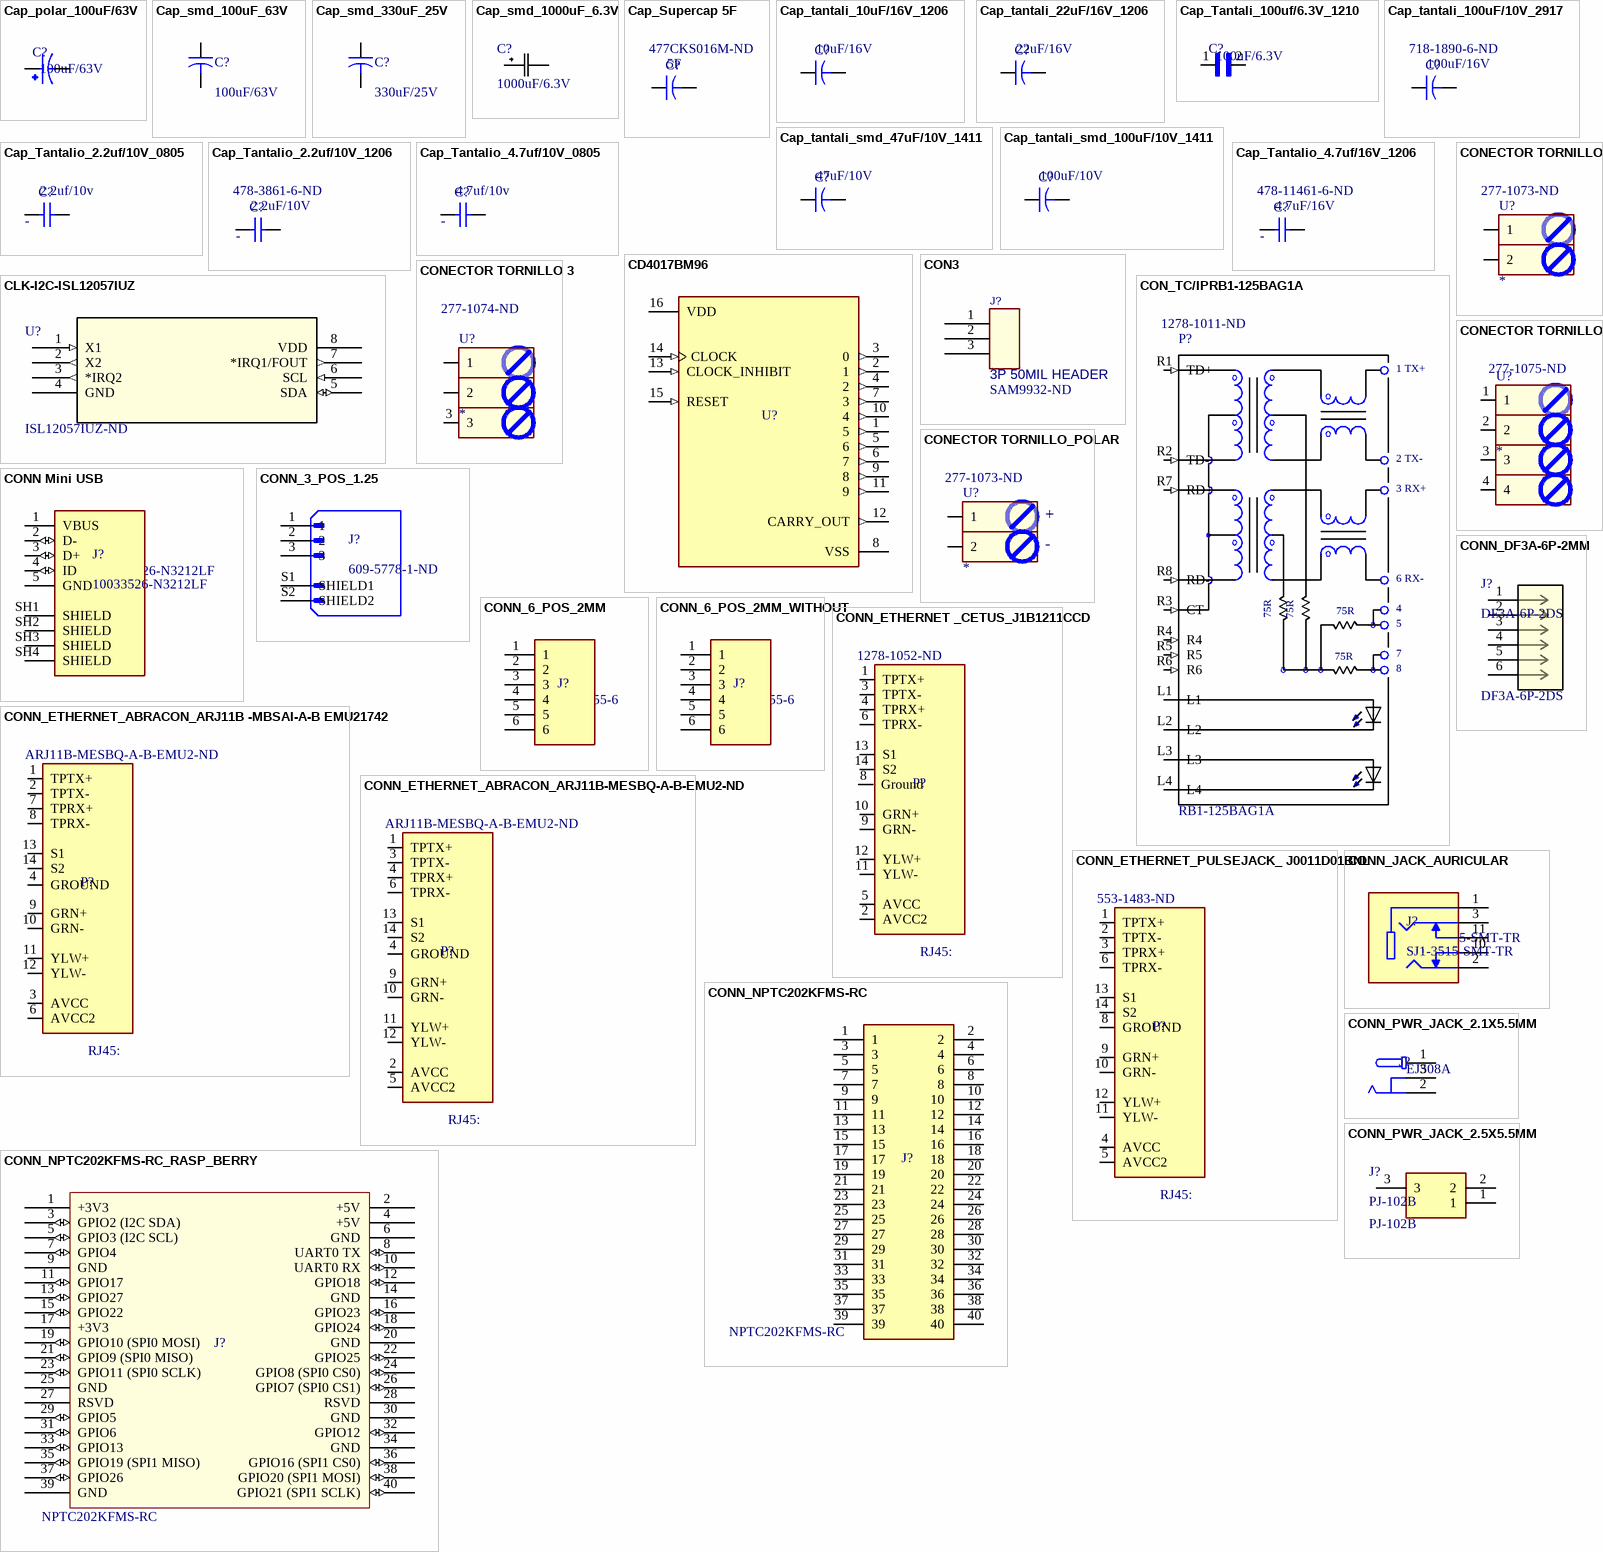
[diagram p1: symbols Cap_polar_100uF/63V to CONN_PWR_JACK_2.5X5.5MM]

## Cap_polar_100uF/63V
designator C?, comment value 100uF/63V  (hidden comment: EEU-FC1J101)
Capacitores electrolíticos de aluminio 100 µF 63 V Radial, encapsulado 3000 h a 105°C; Digi_Key_Part_Number: P10343-ND; Price: 0,65; ComponentLink1Description: CAP ALUM 100UF 20% 63V RADIAL TH; ComponentLink1URL: https://www.digikey.com/es/products/detail/panasonic-electronic-components/EEU-FC1J101/266352; Link: https://www.digikey.com/es/products/detail/panasonic-electronic-components/EEU-FC1J101/266352; LCSC Part: C2772; Mouser Part: 667-EEU-FC1J101; Price JLCPCB: 0,05
footprint CAPPRD500W60D1000H1250
pins: N, P

## Cap_smd_100uF_63V
designator C?, comment value 100uF/63V  (hidden comment: A782MS107M1JLAS030)
100 µF 63 V Aluminum - Polymer Capacitors Radial, Can - SMD 30mOhm 4000 Hrs @ 135°C; Digi_Key_Part_Number: 399-A782MS107M1JLAS030CT-ND; Link: https://www.digikey.com/en/products/detail/kemet/A782MS107M1JLAS030/21544807; Price: 1,07; JLCPCB Part: C6486600; ComponentLink1Description: CAP ALUMHYB 100UF 20% 63V SMD; ComponentLink1URL: https://www.digikey.com/en/products/detail/kemet/A782MS107M1JLAS030/21544807
footprint CAPAE1030X1030N
pins: 1, 2

## Cap_smd_330uF_25V
designator C?, comment value 330uF/25V  (hidden comment: PCE4931CT-ND)
330 µF 25 V Aluminum Electrolytic Capacitors Radial, Can - SMD 3000 Hrs @ 125°C; ComponentLink1Description: EEE-TP1E331AP; ComponentLink1URL: https://www.digikey.com/en/products/detail/panasonic-electronic-components/EEE-TP1E331AP/1975655; Digi_Key_Part_Number: PCE4931CT-ND; Link: https://www.digikey.com/en/products/detail/panasonic-electronic-components/EEE-TP1E331AP/1975655; Price: 1,57; JLCPCB Part: C2162880
footprint CAPAE1030X1030N
pins: 1, 2

## Cap_smd_1000uF_6.3V
designator C?, comment value 1000uF/6.3V  (hidden comment: RHS0J102MCN1GS)
1000 µF 6.3 V Aluminum - Polymer Capacitors Radial, Can - SMD 10mOhm 2000 Hrs @ 105°C; Digi_Key_Part_Number: 493-3774-1-ND; ComponentLink1Description: CAP ALUM POLY 1000UF 20% 6.3V; ComponentLink1URL: https://www.digikey.com/en/products/detail/nichicon/RHS0J102MCN1GS/2209464; Link: https://www.digikey.com/en/products/detail/nichicon/RHS0J102MCN1GS/2209464; Price: 1,28; JLCPCB Part: C3275499
footprint CAP_RHAHS_8X11P7_NCH
pins: 1, 2

## Cap_Supercap 5F
designator C?, comment value 5F  Supplier Part Number 1: 477CKS016M-ND  (hidden comment: 478-SCCR25B505PRB-ND)
5 F (EDLC) Supercapacitor 2.7 V Radial, Can 85mOhm @ 1kHz 2000 Hrs @ 65°C; Manufacturer: KYOCERA AVX; Dielectric Material: Aluminium; Capacitance: 5 F; Tolerance: 20%; Voltage Rating (DC): 2.7V; Life (Hours): 2000Hour; Ripple Current: 960mA; Leakage Current: 750uA; Dissipation Factor: 0.16%; Lead Diameter: 0.6mm; Published: 23-Sep-2002; PackageReference: CAPR5-4X5; Publisher: Altium Limited; PackageDescription: Capacitor; 2 Leads; Manufacturer Part Number: SCCR25B505PRB; Mount: Through Hole,PCB; Case/Package: Radial; Number of Pins: 2; Min Operating Temperature: -40°C; Max Operating Temperature: 85°C; Packaging: Tape and Reel; Voltage Rating: 2.7V; Package Quantity: 500; Termination: Radial; Voltage: 2.7V; Diameter: 10mm; Length: 20mm; Height: 20mm; Lead Pitch: 5mm; Height - Seated (Max): 0.866inch; Radiation Hardening: No; REACH SVHC: No SVHC; Lead Free: Lead Free; Supplier 1: Digi-Key; ComponentLink1Description: SUPERCAP CYLINDRICAL; ComponentLink1URL: https://www.digikey.com/en/products/detail/kyocera-avx/SCCR25B505PRB/12663768; Digi_Key_Part_Number: 478-SCCR25B505PRB-ND; Link: https://www.digikey.com/en/products/detail/kyocera-avx/SCCR25B505PRB/12663768; Price: 1,42
footprint C470U
pins: 1, 2

## Cap_tantali_10uF/16V_1206
designator C?, comment value 10uF/16V  (hidden comment: 718-1956-1-ND)
10 µF Molded Tantalum Capacitors 16 V 1206 (3216 Metric) 3Ohm; ComponentLink1Description: 293D106X0016A2TE3; ComponentLink1URL: https://www.digikey.com/es/products/detail/vishay-sprague/293D106X0016A2TE3/1578608; Digi_Key_Part_Number: 718-1956-1-ND; Link: https://www.digikey.com/es/products/detail/vishay-sprague/293D106X0016A2TE3/1578608; Price: 0,36; LCSC Part: C2162859; Mouser Part: 74-293D106X0016A2TE3; Price JLCPCB: 0,16
footprint CAP-A Size (Tantal CAP A Size EIA/IECQ 3216)
pins: 1 +, 2

## Cap_tantali_22uF/16V_1206
designator C?, comment value 22uF/16V  (hidden comment: TAJA226M016RNJ)
Capacitores de tantalio Moldeado 22 µF 16 V 1206 (3216 métrico) 2.3Ohm a 100kHz; Digi_Key_Part_Number: 478-13513-1-ND; Link: https://www.digikey.com/es/products/detail/kyocera-avx/TAJA226M016RNJ/10381501; ComponentLink1Description: CAP TANT 22UF 20% 16V 1206; ComponentLink1URL: https://www.digikey.com/es/products/detail/kyocera-avx/TAJA226M016RNJ/10381501; Price: 0,63; LCSC Part: C6328904; Mouser Part: *; Price JLCPCB: 0,34
footprint CAP-A Size (Tantal CAP A Size EIA/IECQ 3216)
pins: 1 +, 2

## Cap_Tantali_100uf/6.3V_1210
designator C?, comment value 100uF/6.3V  (hidden comment: TAJB107M006RNJ)
100 µF Molded Tantalum Capacitors 6.3 V 1411 (3528 Metric), 1210 1.7Ohm; Digi_Key_Part_Number: 478-3877-1-ND; Link: https://www.digikey.com/en/products/detail/kyocera-avx/TAJB107M006RNJ/1126805; Price: 0,56; ComponentLink1Description: CAP TANT 100UF 20% 6.3V 1411; ComponentLink1URL: https://www.digikey.com/en/products/detail/kyocera-avx/TAJB107M006RNJ/1126805
footprint CAPPC3528X210N
pins: 1 +, 2 -

## Cap_tantali_100uF/10V_2917
designator C?, comment value 100uF/16V  Supplier Part Number 1: 718-1890-6-ND  (hidden comment: 718-1890-1-ND)
Capacitores de tantalio Moldeado 100 µF 10 V 2917 (7343 métrico) 600mOhm; Manufacturer: Nichicon; Manufacturer Part Number: UVR1E102MPD1TD; Dielectric Material: Aluminium; Capacitance: 1mF; Tolerance: 20%; Voltage Rating (DC): 25V; Life (Hours): 2000Hour; Ripple Current: 960mA; Leakage Current: 750uA; Dissipation Factor: 0.16%; Lead Diameter: 0.6mm; Published: 23-Sep-2002; PackageReference: CAPR5-4X5; Publisher: Altium Limited; PackageDescription: Capacitor; 2 Leads; Mount: Through Hole,PCB; Case/Package: Radial; Number of Pins: 2; Min Operating Temperature: -40°C; Max Operating Temperature: 85°C; Packaging: Tape and Reel; Voltage Rating: 25V; Package Quantity: 500; Termination: Radial; Voltage: 25V; Diameter: 10mm; Length: 20mm; Height: 20mm; Lead Pitch: 5mm; Height - Seated (Max): 0.866inch; Radiation Hardening: No; REACH SVHC: No SVHC; Lead Free: Lead Free; Supplier 1: Digi-Key; Digi_Key_Part_Number: 718-1890-1-ND; Link: https://www.digikey.com/es/products/detail/293D107X5010D2TE3/718-1890-6-ND/3542941?utm_campaign=buynow&utm_medium=aggregator&curr=usd&utm_source=octopart; ComponentLink1Description: CAP TANT 100UF 5% 10V 2917; ComponentLink1URL: https://www.digikey.com/es/products/detail/293D107X5010D2TE3/718-1890-6-ND/3542941?utm_campaign=buynow&utm_medium=aggregator&curr=usd&utm_source=octopart; Price: 1,39
footprint CAP_2917
pins: 1 +, 2

## Cap_tantali_smd_47uF/10V_1411
designator C?, comment value 47uF/10V  (hidden comment: 399-9728-1-ND)
47 µF Molded Tantalum Capacitors 10 V 1411 (3528 Metric) 1Ohm; ComponentLink1Description: T491B476K010AT; ComponentLink1URL: https://www.digikey.com/es/products/detail/kemet/T491B476K010AT/3724805?s=N4IgTCBcDaIMwE4EFoEHYwA5kEZkDkAREAXQF8g; Link: https://www.digikey.com/es/products/detail/kemet/T491B476K010AT/3724805?s=N4IgTCBcDaIMwE4EFoEHYwA5kEZkDkAREAXQF8g; Price: 0,63; Digi_Key_Part_Number: 399-9728-1-ND; LCSC Part: C116617; Mouser Part: 80-T491B476K010; Price JLCPCB: 0,16
footprint CAPPC3528X210N
pins: 1, 2

## Cap_tantali_smd_100uF/10V_1411
designator C?, comment value 100uF/10V  (hidden comment: F931A107KBA)
Capacitores de tantalio Moldeado 100 µF 10 V 1411 (3528 métrico), 1210 1.2Ohm a 100kHz; Digi_Key_Part_Number: 478-8195-1-ND; Link: https://www.digikey.com/es/products/detail/kyocera-avx/F931A107KBA/4005266; Price: 0,77; LCSC Part: C7196; Mouser Part: 647-F931A107KBA; Price JLCPCB: 0,24; ComponentLink1Description: CAP TANT 100UF 10% 10V 1411; ComponentLink1URL: https://www.digikey.com/es/products/detail/kyocera-avx/F931A107KBA/4005266
footprint CAPPC3528X210N
pins: 1, 2

## Cap_Tantalio_2.2uf/10V_0805
designator C?, comment value 2.2uf/10v  (hidden comment: 718-2352-1-ND)
Capacitores de tantalCapacitores de tantalio Moldeado 2.2 µF 10 V 0805 (2012 métrico) 8.8Ohm a 100kHzio Moldeado 10µF 16V 0805; ComponentLink1Description: CAP TANT 2.2UF 20% 10V 0805; ComponentLink1URL: https://www.digikey.com/es/products/detail/TMCHP1A225MTRF/718-2352-6-ND/10107774?utm_campaign=buynow&utm_medium=aggregator&curr=usd&utm_source=octopart; Digi_Key_Part_Number: 718-2352-1-ND; Link: https://www.digikey.com/es/products/detail/TMCHP1A225MTRF/718-2352-6-ND/10107774?utm_campaign=buynow&utm_medium=aggregator&curr=usd&utm_source=octopart; Price: 0,26; LCSC Part: C5137599; Mouser Part: TMCHP1A225MTRF; Price JLCPCB: 0,02
footprint CAP_tantalio_0805
pins: 1 -, 2

## Cap_Tantalio_2.2uf/10V_1206
designator C?, comment value 2.2uF/10V  Supplier Part Number 1: 478-3861-6-ND  (hidden comment: 478-3861-1-ND)
2.2 µF Molded Tantalum Capacitors 10 V 1206 (3216 Metric) 7Ohm @ 100kHz; Manufacturer: Kyocera AVX; Manufacturer Part Number: 08055C104MAT2A; Dielectric Material: Ceramic; Capacitance: 100nF; Voltage Rating: 50V; Tolerance: 20%; Dielectric: X7R; Dissipation Factor: 2.5%; Insulation Resistance: 100GR; ESR (Equivalent Series Resistance): 3R; Life (Hours): 2000Hour; Published: 8-Jun-2000; LatestRevisionDate: 17-Jul-2002; LatestRevisionNote: Re-released for DXP Platform.; PackageReference: RAD-0.3; Publisher: Altium Limited; PackageDescription: Radial Cap, Thru-Hole; 2 Leads; 0.3 in Pin Spacing; Mount: Surface Mount,PCB; Case/Package: 0805; Number of Pins: 2; Case Code (Metric): 2012; Case Code (Imperial): 0805; Contact Plating: Tin,Matte; Min Operating Temperature: -55°C; Max Operating Temperature: 125°C; Package Quantity: 1; Packaging: Tape and Reel; Voltage Rating (DC): 50V; Termination: SMD/SMT; Voltage: 50V; Length: 2.01mm; Height: 0.94mm; Width: 0.049inch; Thickness: 0.037inch; Depth: 1.25mm; Radiation Hardening: No; REACH SVHC: No SVHC; Lead Free: Lead Free; Features: General Purpose; Supplier 1: Digi-Key; Link: https://www.digikey.com/es/products/detail/TAJA225K010RNJ/478-3861-6-ND/1127025?utm_campaign=buynow&utm_medium=aggregator&curr=usd&utm_source=octopart; Digi_Key_Part_Number: 478-3861-1-ND; ComponentLink1Description: CAP TANT 2.2UF 10% 10V 1206; ComponentLink1URL: https://www.digikey.com/es/products/detail/kyocera-avx/TAJA225K010RNJ/1126789?s=N4IgTCBcDaICwHYAcBaAzEgbARhbgcgCIgC6AvkA; Price: 0,38
footprint CAP_tantalio_1206
pins: 1 -, 2

## Cap_Tantalio_4.7uf/10V_0805
designator C?, comment value 4.7uf/10v  (hidden comment: F921A475MPA)
Capacitores de tantalio Moldeado 4.7 µF 10 V 0805 (2012 métrico) 6Ohm; Digi_Key_Part_Number: 478-8125-1-ND; Link: https://www.digikey.com/es/products/detail/kyocera-avx/F921A475MPA/4004984; Price: 0,36; LCSC Part: C76639; Price JLCPCB: 0,039; ComponentLink1Description: CAP TANT 4.7UF 20% 10V 0805; ComponentLink1URL: https://www.digikey.com/es/products/detail/kyocera-avx/F921A475MPA/4004984
footprint CAP_tantalio_0805
pins: 1 -, 2

## Cap_Tantalio_4.7uf/16V_1206
designator C?, comment value 4.7uF/16V  Supplier Part Number 1: 478-11461-6-ND  (hidden comment: 478-11461-1-ND)
Capacitores de tantalio Moldeado 4.7 µF 16 V 1206 (3216 métrico); Manufacturer: Kyocera AVX; Manufacturer Part Number: 08055C104MAT2A; Dielectric Material: Ceramic; Capacitance: 100nF; Voltage Rating: 50V; Tolerance: 20%; Dielectric: X7R; Dissipation Factor: 2.5%; Insulation Resistance: 100GR; ESR (Equivalent Series Resistance): 3R; Life (Hours): 2000Hour; Published: 8-Jun-2000; LatestRevisionDate: 17-Jul-2002; LatestRevisionNote: Re-released for DXP Platform.; PackageReference: RAD-0.3; Publisher: Altium Limited; PackageDescription: Radial Cap, Thru-Hole; 2 Leads; 0.3 in Pin Spacing; Mount: Surface Mount,PCB; Case/Package: 0805; Number of Pins: 2; Case Code (Metric): 2012; Case Code (Imperial): 0805; Contact Plating: Tin,Matte; Min Operating Temperature: -55°C; Max Operating Temperature: 125°C; Package Quantity: 1; Packaging: Tape and Reel; Voltage Rating (DC): 50V; Termination: SMD/SMT; Voltage: 50V; Length: 2.01mm; Height: 0.94mm; Width: 0.049inch; Thickness: 0.037inch; Depth: 1.25mm; Radiation Hardening: No; REACH SVHC: No SVHC; Lead Free: Lead Free; Features: General Purpose; Supplier 1: Digi-Key; Digi_Key_Part_Number: 478-11461-1-ND; Link: https://www.digikey.com/es/products/detail/TAJA475K016UNJ/478-11461-6-ND/8019359?utm_campaign=buynow&utm_medium=aggregator&curr=usd&utm_source=octopart; ComponentLink1Description: CAP TANT 4.7UF 10% 16V 1206; ComponentLink1URL: https://www.digikey.com/es/products/detail/TAJA475K016UNJ/478-11461-6-ND/8019359?utm_campaign=buynow&utm_medium=aggregator&curr=usd&utm_source=octopart; Price: 0,38
footprint CAP_tantalio_1206
pins: 1 -, 2

## CD4017BM96
designator U?
Counter IC Counter, Decade 1 Element 10 Bit Positive, Negative 16-SOIC; Digi_Key_Part_Number: 296-25940-1-ND; Price: 0,47; ComponentLink1Description: CD4017BM96; ComponentLink1URL: https://www.digikey.com/en/products/detail/texas-instruments/CD4017BM96/1690809; Link: https://www.digikey.com/en/products/detail/texas-instruments/CD4017BM96/1690809; Price JLCPCB: 0,41; LCSC Part: C11349; Mouser Part: *; Value: CD4017BM96
footprint SOIC127P600X175-16N
pins: 1 5 (out), 2 1 (out), 3 0 (out), 4 2 (out), 5 6 (out), 6 7 (out), 7 3 (out), 8 VSS (power), 9 8 (out), 10 4 (out), 11 9 (out), 12 CARRY_OUT (out), 13 CLOCK_INHIBIT (in), 14 CLOCK (in), 15 RESET (in), 16 VDD (power)